# Altium footprint library P1_PcbLib1.PcbLib: 9 footprints
Each footprint in its own frame and in the unit in brackets; x right, y up, seen from the top. Pads: shape width x height; smd on the part's side, far side on the other; paste and mask are expansions set on the pad; w line width, h text height; cw(c..) or ccw(c..) is an arc to the next point about the centre after c.
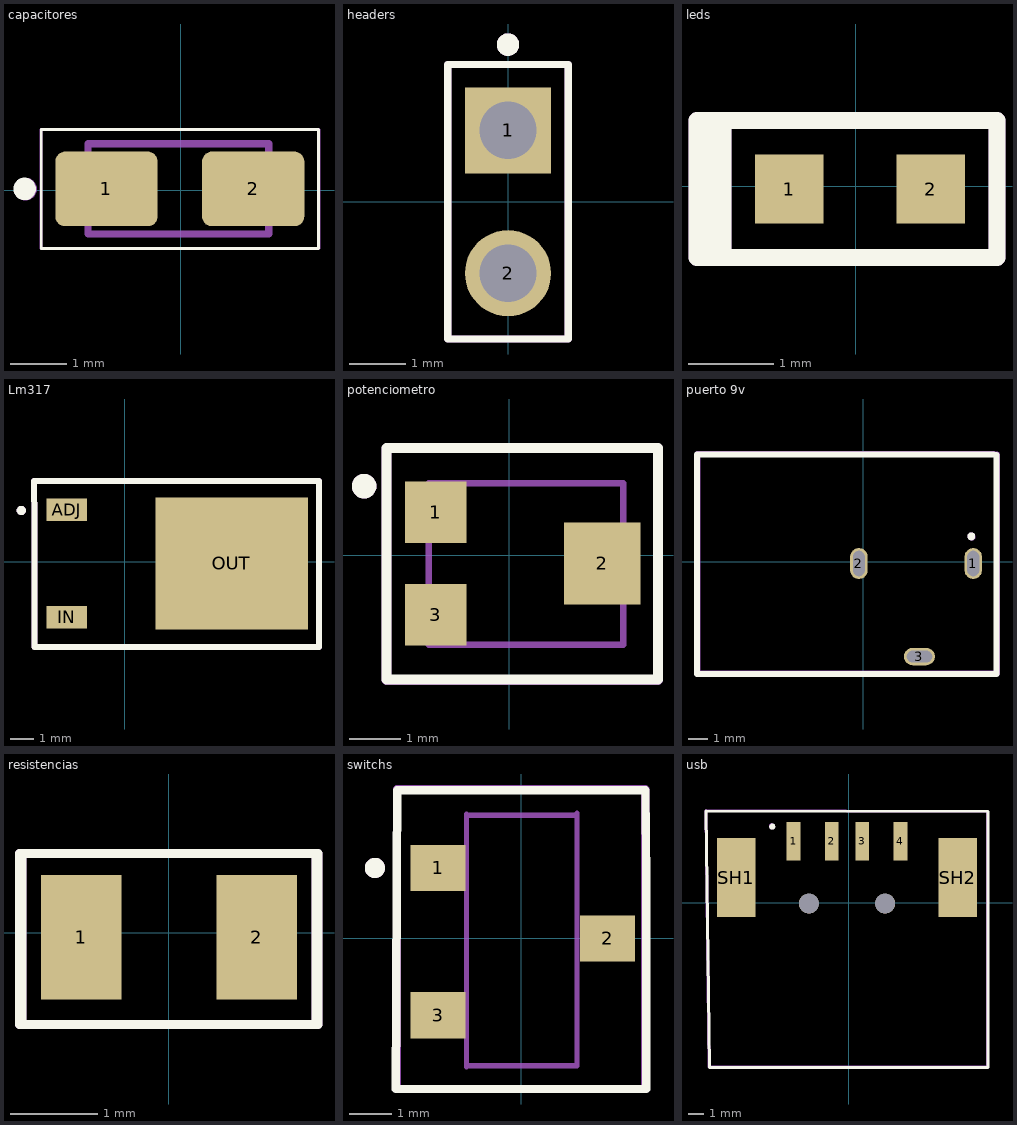
[diagram p0: the footprints below, top view; thin cyan lines are the x and y axes]

## capacitores [mm]
pads (2):
  rrect25% 1.81x1.32 smd: 1(-1.316,0.028) 2(1.284,0.028)
Top Overlay:
  circle w0.2: c-2.766,0.028 r0.1
  lines w0.05: -2.471,-1.025 2.439,-1.025 2.439,1.078 -2.471,1.078 -2.471,-1.025
Mechanical 29 (Mech29):
  circle w0.2: c-2.75,0.025 r0.1
  lines w0.05: -2.475,-1.022 2.45,-1.022 2.45,1.078 -2.475,1.078 -2.475,-1.022
  lines w0.127: -1.641,-0.772 -1.641,0.828 1.559,0.828 1.559,-0.772 -1.641,-0.772
  text "'.Designator'1" at -2,-0.417 h1
3D body "TAJA106K016SNJ.STEP": height 1.81, standoff 0.01, extent -1.6,-0.775 1.6,0.825

## headers [mm]
pads (2):
  rect 1.53x1.53 hole 1.02: 1(0,1.27)
  round 1.53 hole 1.02: 2(0,-1.27)
Top Overlay:
  circle w0.2: c0,2.794 r0.1
  lines w0.127: -1.07,-2.44 1.07,-2.44 1.07,2.44 -1.07,2.44 -1.07,-2.44
Mechanical 29 (Mech29):
  circle w0.2: c0,2.794 r0.1
  lines w0.127: -1.07,-2.44 1.07,-2.44 1.07,2.44 -1.07,2.44 -1.07,-2.44
  text "'.Designator'1" at -1.025,-0.442 h1
3D body "header-5-146268-1--3DModel-STEP-1.STEP": height 8.14, standoff -3.04, extent -1.067,-2.438 1.067,2.438

## leds [mm]
pads (2):
  rect 0.8x0.8 smd: 1(-0.779,-0.033) 2(0.871,-0.033)
Top Overlay:
  rectangle: -1.854,-0.833 -1.454,0.767
  lines w0.2: -1.854,-0.833 1.646,-0.833 1.646,0.767 -1.854,0.767 -1.854,-0.833
Mechanical 29 (Mech29):
  rectangle: -1.854,-0.833 -1.454,0.767
  lines w0.2: -1.854,-0.833 1.646,-0.833 1.646,0.767 -1.854,0.767 -1.854,-0.833
  text "'.Designator'1" at -1.425,-0.592 h1
3D body "User Library-SMD LED 0603.step": height 0.4, standoff 0.01, extent -0.754,-0.433 0.846,0.367

## Lm317 [mm]
pads (3):
  rect 1.73x0.96 smd: ADJ(-2.473,2.207) IN(-2.473,-2.363)
  rect 6.49x5.63 smd paste-4: OUT(4.547,-0.078)
Top Overlay:
  circle w0.2: c-4.406,2.175 r0.097
  lines w0.254: 8.25,-3.625 8.25,-1.863 8.25,1.662 8.25,3.425 -3.856,3.425 -3.853,1.663 ; 8.25,-3.623 -3.844,-3.625 -3.847,-1.863 -3.853,1.663 ; -3.853,1.663 -3.853,1.663
Top Paste:
  region: 5.262,0.477 3.832,0.477 3.832,2.187 5.262,2.187
  region: 7.432,0.477 6.002,0.477 6.002,2.187 7.432,2.187
  region: 3.092,0.477 1.662,0.477 1.662,2.187 3.092,2.187
  region: 3.092,-2.343 1.662,-2.343 1.662,-0.633 3.092,-0.633
  region: 5.262,-2.343 3.832,-2.343 3.832,-0.633 5.262,-0.633
  region: 7.432,-2.343 6.002,-2.343 6.002,-0.633 7.432,-0.633
Mechanical 29 (Mech29):
  circle w0.2: c-4.406,2.175 r0.097
  lines w0.254: 8.25,-3.625 8.25,-1.863 8.25,1.662 8.25,3.425 -3.856,3.425 -3.853,1.663 ; 8.25,-3.623 -3.844,-3.625 -3.847,-1.863 -3.853,1.663 ; -3.853,1.663 -3.853,1.663
  text "'.Designator'1" at -2.9,-0.467 h1
3D body "step_temp.STEP": height 2.55, standoff -0.17, extent -3.005,-3.37 6.905,3.17

## potenciometro [mm]
pads (3):
  rect 1.2x1.2 smd: 1(-1.438,0.84) 3(-1.438,-1.16)
  rect 1.5x1.6 smd: 2(1.812,-0.16)
Top Overlay:
  circle w0.24: c-2.834,1.348 r0.12
  lines w0.2: -2.4,-2.425 2.9,-2.425 2.9,2.09 1.575,2.09 -1.075,2.09 -2.4,2.09 -2.4,-2.425
Mechanical 29 (Mech29):
  circle w0.24: c-2.834,1.348 r0.12
  lines w0.127: -1.575,-1.75 -1.575,-0.95 -1.575,0.65 -1.575,1.4 -0.575,1.4 1.325,1.4 2.225,1.4 2.225,0.725 2.225,-1.075 2.225,-1.75 -1.525,-1.75
  lines w0.2: -2.4,2.082 -2.4,0.954 -2.4,-1.304 -2.4,-2.433 2.9,-2.433 2.9,-1.304 2.9,0.954 2.9,2.082 2.893,2.09 1.625,2.09 -1.025,2.09 -2.35,2.09
  text "'.Designator'1" at -1.45,-0.467 h1
3D body "35W.stp": height 1.71, standoff -0.09, extent -1.5,-1.675 2.151,1.325

## puerto 9v [mm]
pads (3):
  oval 0.9x1.6 hole 0.6 slot 1.3 at 90 deg: 1(5.675,-0.1) 2(-0.225,-0.1)
  oval 1.6x0.9 hole 0.6 slot 1.3 at 0 deg: 3(2.9,-4.9)
Top Overlay:
  circle w0.2: c5.575,1.3 r0.1
  lines w0.3: 6.725,5.525 -8.575,5.525 -8.575,-5.8 6.875,-5.8 6.875,5.5
Mechanical 29 (Mech29):
  circle w0.2: c5.575,1.3 r0.1
  circle w0.2: c5.6,1.275 r0.086
  lines w0.3: 6.75,5.55 -8.55,5.55 -8.55,-5.775 6.9,-5.775 6.9,5.525
  text "'.Designator'1" at -4.171,-0.863 h1.52
3D body "54-00133.STEP": height 10.81, standoff -3.49, extent -7.875,-5.05 6.525,4.31

## resistencias [mm]
pads (2):
  rect 0.92x1.42 smd: 1(-0.998,-0.056) 2(1.002,-0.056)
Top Overlay:
  lines w0.102: -1.7,-1.048 1.675,-1.048 ; -1.7,-1.048 -1.7,-0.561 ; -1.7,-1.048 -1.7,-0.561 ; -1.7,-1.048 1.675,-1.048 ; -1.7,-0.561 -1.7,0.413 ; -1.7,-0.561 -1.7,0.413 ; -1.7,0.413 -1.7,0.9 ; -1.7,0.413 -1.7,0.9 ; -1.7,0.9 1.675,0.9 -1.7,0.9 ; -1.675,-1.048 1.7,-1.048 ; -1.675,-1.048 -1.675,-0.561 ; -1.675,-1.048 1.7,-1.048 ; -1.675,-1.048 -1.675,-0.561 ; -1.675,-0.561 -1.675,0.413 ; -1.675,-0.561 -1.675,0.413 ; -1.675,0.413 -1.675,0.9 ; -1.675,0.413 -1.675,0.9 ; -1.675,0.9 1.7,0.9 -1.675,0.9 ; 1.675,-1.048 1.675,0.875 1.675,-1.048 ; 1.7,-1.048 1.7,0.875 1.7,-1.048
Mechanical 29 (Mech29):
  lines w0.102: -1.7,-1.048 1.675,-1.048 ; -1.7,-1.048 -1.7,-0.561 ; -1.7,-1.048 -1.7,-0.561 ; -1.7,-1.048 1.675,-1.048 ; -1.7,-0.561 -1.7,0.413 ; -1.7,-0.561 -1.7,0.413 ; -1.7,0.413 -1.7,0.9 ; -1.7,0.413 -1.7,0.9 ; -1.7,0.9 1.675,0.9 -1.7,0.9 ; -1.675,-1.048 1.7,-1.048 ; -1.675,-1.048 -1.675,-0.561 ; -1.675,-1.048 1.7,-1.048 ; -1.675,-1.048 -1.675,-0.561 ; -1.675,-0.561 -1.675,0.413 ; -1.675,-0.561 -1.675,0.413 ; -1.675,0.413 -1.675,0.9 ; -1.675,0.413 -1.675,0.9 ; -1.675,0.9 1.7,0.9 -1.675,0.9 ; 1.675,-1.048 1.675,0.875 1.675,-1.048 ; 1.7,-1.048 1.7,0.875 1.7,-1.048
  text "'.Designator'1" at -1.475,-0.592 h1
3D body "resistencia-RCS0805470RJNEA.STEP": height 0.51, standoff 0.01, extent -1,-0.675 1,0.575

## switchs [mm]
pads (3):
  rect 1.3x1.1 smd: 1(-1.975,1.675) 2(2.05,0) 3(-1.975,-1.825)
Top Overlay:
  circle w0.24: c-3.475,1.675 r0.12
  lines w0.2: -2.981,-3.575 -2.972,-1.581 -2.957,1.556 -2.948,3.525 ; -2.95,-3.575 -1.625,-3.575 1.025,-3.575 2.968,-3.575 2.968,1.406 2.952,3.525 ; -2.95,3.525 -1.625,3.525 1.025,3.525 2.95,3.525
Mechanical 29 (Mech29):
  circle w0.24: c-3.475,1.675 r0.12
  lines w0.127: -1.3,-3.05 -1.3,2.95 ; -1.3,2.925 1.3,2.925 ; -1.275,-3.025 1.325,-3.025 1.325,2.975
  lines w0.2: -2.95,-3.575 -2.95,-1.204 -2.95,1.054 -2.95,3.55 -1.25,3.55 1.4,3.55 2.95,3.55 2.95,-1.279 2.95,-3.575 1.35,-3.575 -1.3,-3.575 -2.95,-3.575
  text "'.Designator'1" at -2.625,-0.396 h1
3D body "CJS-1201TB.stp": height 2.43, standoff -0.09, extent -2.125,-2.975 2.075,3.025

## usb [mm]
pads (8):
  rect 0.9x2.5 smd: 1(-3.606,4.012) 2(-1.106,4.012) 3(0.894,4.012) 4(3.394,4.012)
  rect 2.5x5.15 smd: SH1(-7.356,1.637) SH2(7.144,1.637)
  round 1.3 hole 1.3 unplated: ""(-2.606,-0.068) ""(2.394,-0.068)
Top Overlay:
  circle w0.2: c-5,4.975 r0.1
  lines w0.2: -9.327,5.95 -9.12,-10.788 9.128,-10.804 9.121,5.952 -9.327,6.004
Mechanical 29 (Mech29):
  circle w0.2: c-5.025,5 r0.1
  lines w0.2: -9.352,5.975 -9.145,-10.763 9.103,-10.779 9.096,5.977 -9.352,6.029
  text "'.Designator'1" at -5.625,-4.667 h1
3D body "CUI_DEVICES_UJ2-AH-1-SMT.step": height 7.21, standoff -1.19, extent -8.05,-9.9 7.85,4.9